# Altium footprint library CRCW12061R00FNEA.PcbLib: 3 footprints
Each footprint in its own frame and in the unit in brackets; x right, y up, seen from the top. Pads: shape width x height; smd on the part's side, far side on the other; paste and mask are expansions set on the pad; w line width, h text height; cw(c..) or ccw(c..) is an arc to the next point about the centre after c.
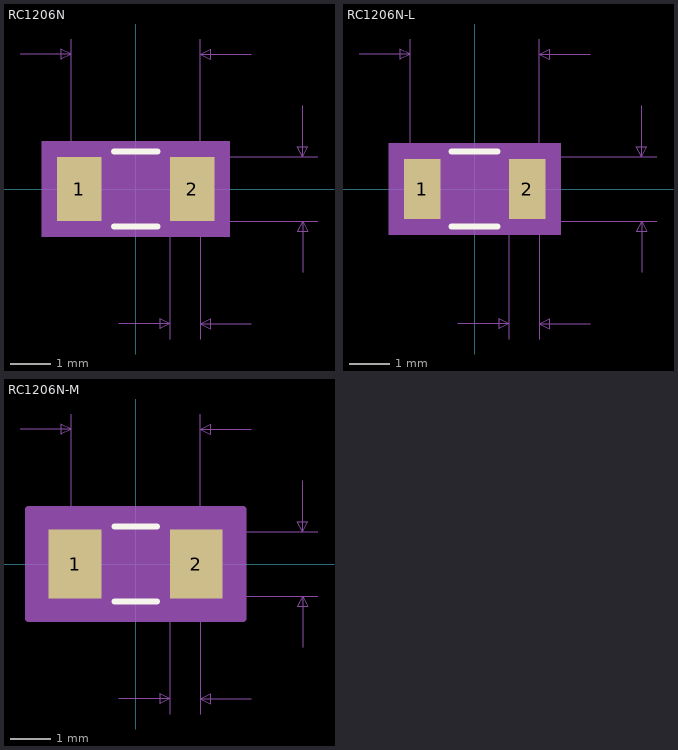
[diagram p0: the footprints below, top view; thin cyan lines are the x and y axes]

## RC1206N [mm]
pads (2):
  rect 1.106x1.6 smd: 1(-1.403,0) 2(1.403,0)
Top Overlay:
  lines w0.152: -0.542,-0.927 0.542,-0.927 ; -0.542,0.927 0.542,0.927
Mechanical 5:
  region: 2.337,-1.181 -2.337,-1.181 -2.337,1.181 2.337,1.181
Mechanical 7:
  lines w0.025: -2.87,3.34 -1.6,3.34 ; -1.6,0 -1.6,3.721 ; -0.42,-3.34 0.85,-3.34 ; 0,-0.8 4.521,-0.8 ; 0,0.8 4.521,0.8 ; 0.85,-3.721 0.85,0 ; 1.6,-3.721 1.6,0 1.6,3.721 ; 2.87,-3.34 1.6,-3.34 ; 2.87,3.34 1.6,3.34 ; 4.14,-2.07 4.14,-0.8 ; 4.14,2.07 4.14,0.8 ; -1.6,3.34 -1.854,3.467 -1.854,3.213 -1.6,3.34 ; 0.85,-3.34 0.596,-3.213 0.596,-3.467 0.85,-3.34 ; 1.6,-3.34 1.854,-3.213 1.854,-3.467 1.6,-3.34 ; 1.6,3.34 1.854,3.467 1.854,3.213 1.6,3.34 ; 4.14,-0.8 4.013,-1.054 4.267,-1.054 4.14,-0.8 ; 4.14,0.8 4.013,1.054 4.267,1.054 4.14,0.8
  text "Default Padstyle: RX43p53Y62p99D0T" at -10.795,-7.658 h1.27
  text "Alternate 1 Padstyle: OX60Y90D30P" at -10.477,-10.198 h1.27
  text "Alternate 2 Padstyle: OX90Y60D30P" at -10.477,-12.738 h1.27
  text "0.063in/1.6mm" at 4.648,-0.318 h0.64
  text "0.126in/3.2mm" at -2.064,3.848 h0.64
  text "0.03in/0.75mm" at -0.839,-4.483 h0.64
Mechanical 13:
  lines w0.025: -1.6,-0.8 -1.6,0.8 ; -1.6,-0.8 -0.85,-0.8 -0.85,0.8 -1.6,0.8 ; -1.6,-0.8 1.6,-0.8 ; -1.6,-0.8 -1.6,0.8 ; -1.6,0.8 1.6,0.8 ; 1.6,-0.8 0.85,-0.8 0.85,0.8 1.6,0.8 ; 1.6,-0.8 1.6,0.8 ; 1.6,-0.8 1.6,0.8
Mechanical 15:
  region: 2.21,-1.054 -2.21,-1.054 -2.21,1.054 2.21,1.054
  lines w0.152: -2.21,-1.054 -2.21,1.054 2.21,1.054 2.21,-1.054 -2.21,-1.054
3D body: height 0.25, standoff 0, extent 0,0 0.254,0.254

## RC1206N-L [mm]
pads (2):
  rect 0.902x1.498 smd paste+0 mask+0: 1(-1.301,0) 2(1.301,0)
Top Overlay:
  lines w0.152: -0.569,-0.927 0.569,-0.927 ; -0.569,0.927 0.569,0.927
Mechanical 5:
  region: 2.133,-1.13 -2.133,-1.13 -2.133,1.13 2.133,1.13
Mechanical 7:
  lines w0.025: -2.87,3.34 -1.6,3.34 ; -1.6,0 -1.6,3.721 ; -0.42,-3.34 0.85,-3.34 ; 0,-0.8 4.521,-0.8 ; 0,0.8 4.521,0.8 ; 0.85,-3.721 0.85,0 ; 1.6,-3.721 1.6,0 1.6,3.721 ; 2.87,-3.34 1.6,-3.34 ; 2.87,3.34 1.6,3.34 ; 4.14,-2.07 4.14,-0.8 ; 4.14,2.07 4.14,0.8 ; -1.6,3.34 -1.854,3.467 -1.854,3.213 -1.6,3.34 ; 0.85,-3.34 0.596,-3.213 0.596,-3.467 0.85,-3.34 ; 1.6,-3.34 1.854,-3.213 1.854,-3.467 1.6,-3.34 ; 1.6,3.34 1.854,3.467 1.854,3.213 1.6,3.34 ; 4.14,-0.8 4.013,-1.054 4.267,-1.054 4.14,-0.8 ; 4.14,0.8 4.013,1.054 4.267,1.054 4.14,0.8
  text "Default Padstyle: RX35p53Y58p99D0T" at -10.795,-7.607 h1.27
  text "Alternate 1 Padstyle: OX60Y90D30P" at -10.477,-10.147 h1.27
  text "Alternate 2 Padstyle: OX90Y60D30P" at -10.477,-12.687 h1.27
  text "0.063in/1.6mm" at 4.648,-0.318 h0.64
  text "0.126in/3.2mm" at -2.064,3.848 h0.64
  text "0.03in/0.75mm" at -0.839,-4.483 h0.64
Mechanical 13:
  lines w0.025: -1.6,-0.8 -1.6,0.8 ; -1.6,-0.8 -0.85,-0.8 -0.85,0.8 -1.6,0.8 ; -1.6,-0.8 1.6,-0.8 ; -1.6,-0.8 -1.6,0.8 ; -1.6,0.8 1.6,0.8 ; 1.6,-0.8 0.85,-0.8 0.85,0.8 1.6,0.8 ; 1.6,-0.8 1.6,0.8 ; 1.6,-0.8 1.6,0.8
Mechanical 15:
  region: 1.854,-0.851 -1.854,-0.851 -1.854,0.851 1.854,0.851
  lines w0.152: -1.854,-0.851 -1.854,0.851 1.854,0.851 1.854,-0.851 -1.854,-0.851
3D body: height 0.25, standoff 0, extent 0,0 0.254,0.254

## RC1206N-M [mm]
pads (2):
  rect 1.309x1.702 smd paste+0 mask+0: 1(-1.504,0) 2(1.504,0)
Top Overlay:
  lines w0.152: -0.526,-0.927 0.526,-0.927 ; -0.526,0.927 0.526,0.927
Mechanical 5:
  region: 2.54,-1.232 -2.54,-1.232 -2.54,1.232 2.54,1.232
Mechanical 7:
  lines w0.025: -2.87,3.34 -1.6,3.34 ; -1.6,0 -1.6,3.721 ; -0.42,-3.34 0.85,-3.34 ; 0,-0.8 4.521,-0.8 ; 0,0.8 4.521,0.8 ; 0.85,-3.721 0.85,0 ; 1.6,-3.721 1.6,0 1.6,3.721 ; 2.87,-3.34 1.6,-3.34 ; 2.87,3.34 1.6,3.34 ; 4.14,-2.07 4.14,-0.8 ; 4.14,2.07 4.14,0.8 ; -1.6,3.34 -1.854,3.467 -1.854,3.213 -1.6,3.34 ; 0.85,-3.34 0.596,-3.213 0.596,-3.467 0.85,-3.34 ; 1.6,-3.34 1.854,-3.213 1.854,-3.467 1.6,-3.34 ; 1.6,3.34 1.854,3.467 1.854,3.213 1.6,3.34 ; 4.14,-0.8 4.013,-1.054 4.267,-1.054 4.14,-0.8 ; 4.14,0.8 4.013,1.054 4.267,1.054 4.14,0.8
  text "Default Padstyle: RX51p53Y66p99D0T" at -10.795,-7.709 h1.27
  text "Alternate 1 Padstyle: OX60Y90D30P" at -10.477,-10.249 h1.27
  text "Alternate 2 Padstyle: OX90Y60D30P" at -10.477,-12.789 h1.27
  text "0.063in/1.6mm" at 4.648,-0.318 h0.64
  text "0.126in/3.2mm" at -2.064,3.848 h0.64
  text "0.03in/0.75mm" at -0.839,-4.483 h0.64
Mechanical 13:
  lines w0.025: -1.6,-0.8 -1.6,0.8 ; -1.6,-0.8 -0.85,-0.8 -0.85,0.8 -1.6,0.8 ; -1.6,-0.8 1.6,-0.8 ; -1.6,-0.8 -1.6,0.8 ; -1.6,0.8 1.6,0.8 ; 1.6,-0.8 0.85,-0.8 0.85,0.8 1.6,0.8 ; 1.6,-0.8 1.6,0.8 ; 1.6,-0.8 1.6,0.8
Mechanical 15:
  region: 2.667,-1.359 -2.667,-1.359 -2.667,1.359 2.667,1.359
  lines w0.152: -2.667,-1.359 -2.667,1.359 2.667,1.359 2.667,-1.359 -2.667,-1.359
3D body: height 0.25, standoff 0, extent 0,0 0.254,0.254